# Altium schematic symbol library Trig_Schlib.SchLib: 14 symbols
Pins are listed as number, name and electrical type; pins without a type are passive.

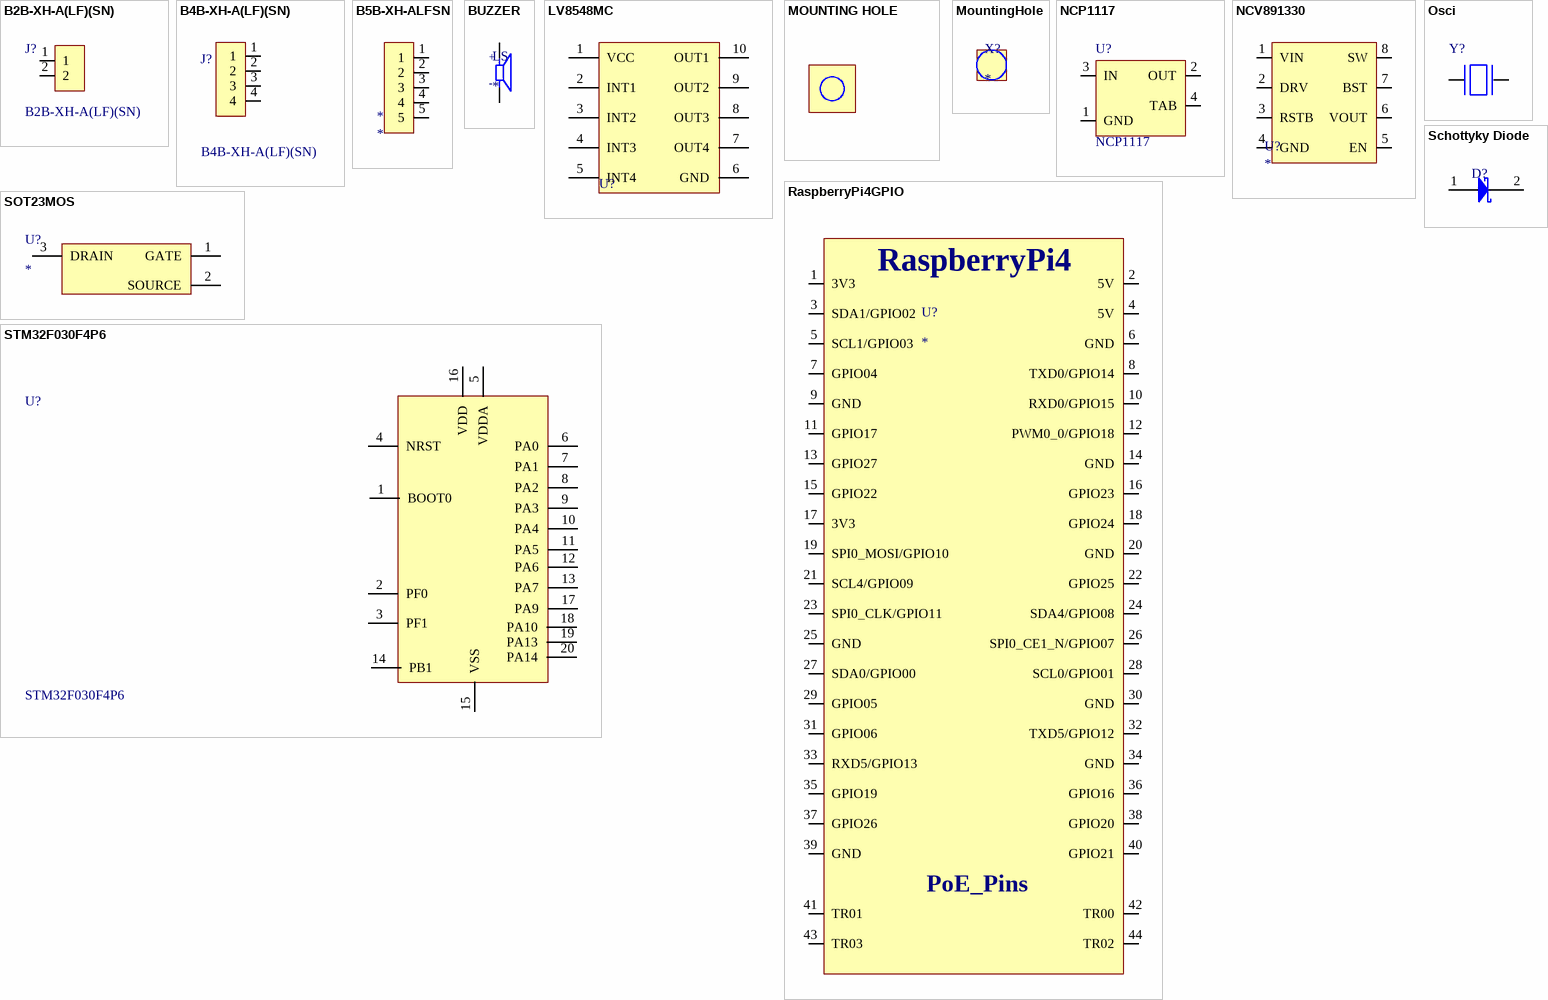
[diagram p0: symbols B2B-XH-A(LF)(SN) to STM32F030F4P6]

## B2B-XH-A(LF)(SN)
designator J?
Connector Header Through Hole 2 position 0.098 _2.50mm_; MF: JST Sales; MP: B2B-XH-A_LF__SN_; Package: None; Availability: Unavailable; SnapEDA_Link: https://www.snapeda.com/parts/B2B-XH-A%28LF%29%28SN%29/JST%20Sales%20America%20Inc./view-part/492310/?ref=snap; Price: None; Value: *
footprint JST_B2B-XH-A(LF)(SN)
pins: 1, 2

## B4B-XH-A(LF)(SN)
designator J?
Connector Header Through Hole 4 position 0.098 _2.50mm_; MP: B4B-XH-A_LF__SN_; MF: JST Sales; Package: None; Availability: Unavailable; Price: None; SnapEDA_Link: https://www.snapeda.com/parts/B4B-XH-A%28LF%29%28SN%29/JST%20Sales%20America%20Inc./view-part/447494/?ref=snap; Value: *
footprint JST_B4B-XH-A(LF)(SN)
pins: 1, 2, 3, 4

## B5B-XH-ALFSN
designator *
pins: 1, 2, 3, 4, 5

## BUZZER
designator LS
12 mm, 1.5 V, 80 dB, Through Hole, Magnetic Audio Transducer Buzzer; MF: CUI Devices; MP: CEM-1201_50_; Package: CUI; Value: *; CUI_purchase_URL: https://www.cuidevices.com/product/audio/buzzers/audio-transducers/cem-1201_50_?utm_source=snapeda.com&utm_medium=referral&utm_campaign=snapedaBOM; Availability: Unavailable; SnapEDA_Link: https://www.snapeda.com/parts/CEM-1201%2850%29/CUI%20Devices/view-part/2766450/?ref=snap; Price: None
footprint BUZZER
pins: N, P
text: +; -

## LV8548MC
designator U?  (value not drawn)
Half Bridge _4_ Driver DC Motors, General Purpose, Stepper Motors DMOS 10-SOIC; MF: ON Semiconductor; MP: LV8548MC-AH; Price: None; Package: SOIC-10 ON Semiconductor; SnapEDA_Link: https://www.snapeda.com/parts/LV8548MC-AH/ON%20Semiconductor/view-part/105761/?ref=snap; Availability: Unavailable; Value: *
footprint *SOIC10-1.0-5X4MM
pins: 1 VCC, 2 INT1, 3 INT2, 4 INT3, 5 INT4, 6 GND, 7 OUT4, 8 OUT3, 9 OUT2, 10 OUT1

## MOUNTING HOLE
designator H?
footprint MOUNTING HOLE

## MountingHole
designator X?
footprint MountingHole

## NCP1117
designator U?
Linear Voltage Regulator IC Positive Fixed 1 Output 1A SOT-223; MF: ON Semiconductor; Package: TO-252-3 ON Semiconductor; Availability: Unavailable; SnapEDA_Link: https://www.snapeda.com/parts/NCP1117/ON%20Semiconductor/view-part/558520/?ref=snap; MP: NCP1117; Price: None; Value: *
footprint SOT223
pins: 1 GND, 2 OUT, 3 IN, 4 TAB

## NCV891330
designator U?
5V 3A Regulator
footprint SOIC127P600X100-9N
pins: 1 VIN, 2 DRV, 3 RSTB, 4 GND, 5 EN, 6 VOUT, 7 BST, 8 SW

## Osci
designator Y?, comment ECS-300-18-5PLX-AGN-TR  (value not drawn)
8MHz Â±25ppm Crystal 18pF 30 Ohms HC-49/US /; MF: ECS Inc.; Availability: Unavailable; Price: None; MP: ECS-300-18-5PLX-AGN-TR; Package: HC49/US ECS International; SnapEDA_Link: https://www.snapeda.com/parts/ECS-300-18-5PLX-AGN-TR/ECS%20Inc./view-part/2761397/?ref=snap; Value: *
footprint *XTAL1140X480X320N
pins: 1, 2

## RaspberryPi4GPIO
designator U?
RaspberryPi4GPIO Pin Schematic
footprint RaspberryPi4
pins: 1 3V3, 2 5V, 3 SDA1/GPIO02, 4 5V, 5 SCL1/GPIO03, 6 GND, 7 GPIO04, 8 TXD0/GPIO14, 9 GND, 10 RXD0/GPIO15, 11 GPIO17, 12 PWM0_0/GPIO18, 13 GPIO27, 14 GND, 15 GPIO22, 16 GPIO23, 17 3V3, 18 GPIO24, 19 SPI0_MOSI/GPIO10, 20 GND, 21 SCL4/GPIO09, 22 GPIO25, 23 SPI0_CLK/GPIO11, 24 SDA4/GPIO08, 25 GND, 26 SPI0_CE1_N/GPIO07, 27 SDA0/GPIO00, 28 SCL0/GPIO01, 29 GPIO05, 30 GND, 31 GPIO06, 32 TXD5/GPIO12, 33 RXD5/GPIO13, 34 GND, 35 GPIO19, 36 GPIO16, 37 GPIO26, 38 GPIO20, 39 GND, 40 GPIO21, 41 TR01, 42 TR00, 43 TR03, 44 TR02
text: RaspberryPi4; PoE_Pins

## Schottyky Diode
designator D?, comment Diode  (value not drawn)
Schottky Diode
footprint Schottky
pins: 1 0, 2 0

## SOT23MOS
designator U?
MF: ON Semiconductor; MP: BAW56; Price: None; Availability: Unavailable; Package: SOT-23-3 ON Semiconductor; SnapEDA_Link: https://www.snapeda.com/parts/BAW56/ON%20Semiconductor/view-part/2026869/?ref=snap; Value: *
footprint SOT23
pins: 1 GATE, 2 SOURCE, 3 DRAIN

## STM32F030F4P6
designator U?
/ ARMÂ® CortexÂ®-M0 STM32F0 Microcontroller IC 32-Bit 48MHz 16KB _16K x 8_ FLASH /; MF: STMicroelectronics; Availability: Unavailable; Price: None; MP: STM32F030F4P6; Package: TSSOP-20 STMicroelectronics; SnapEDA_Link: https://www.snapeda.com/parts/STM32F030F4P6/STMicroelectronics/view-part/46809/?ref=snap; Value: *
footprint *SOP65P640X120-20N
pins: 1 BOOT0, 2 PF0, 3 PF1, 4 NRST, 5 VDDA, 6 PA0, 7 PA1, 8 PA2, 9 PA3, 10 PA4, 11 PA5, 12 PA6, 13 PA7, 14 PB1, 15 VSS, 16 VDD, 17 PA9, 18 PA10, 19 PA13, 20 PA14